# Altium schematic symbol library Schlib.SchLib: 3 symbols
Pins are listed as number, name and electrical type; pins without a type are passive.

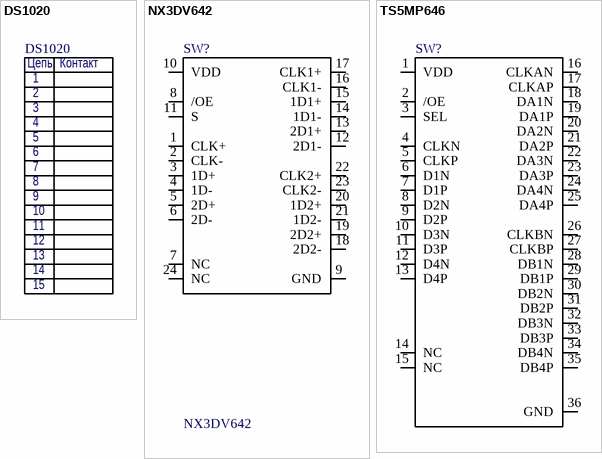
[diagram p0: symbols DS1020 to TS5MP646]

## DS1020
designator DS1020
footprint DS1020
text: Цепь; Контакт; 1; 2; 3; 4; 5; 6; 7; 8; 9; 10; 11; 12; 13; 14; 15

## NX3DV642
designator SW?
footprint NX3DV642
pins: 1 CLK+, 2 CLK-, 3 1D+, 4 1D-, 5 2D+, 6 2D-, 7 NC, 8 /OE, 9 GND, 10 VDD, 11 S, 12 2D1-, 13 2D1+, 14 1D1-, 15 1D1+, 16 CLK1-, 17 CLK1+, 18 2D2-, 19 2D2+, 20 1D2+, 21 1D2-, 22 CLK2+, 23 CLK2-, 24 NC

## TS5MP646
designator SW?  (value not drawn)
footprint TS5MP646
pins: 1 VDD, 2 /OE, 3 SEL, 4 CLKN, 5 CLKP, 6 D1N, 7 D1P, 8 D2N, 9 D2P, 10 D3N, 11 D3P, 12 D4N, 13 D4P, 14 NC, 15 NC, 16 CLKAN, 17 CLKAP, 18 DA1N, 19 DA1P, 20 DA2N, 21 DA2P, 22 DA3N, 23 DA3P, 24 DA4N, 25 DA4P, 26 CLKBN, 27 CLKBP, 28 DB1N, 29 DB1P, 30 DB2N, 31 DB2P, 32 DB3N, 33 DB3P, 34 DB4N, 35 DB4P, 36 GND